# EAGLE library part 284-1273-00-1102JH (library con-3m)
Zero Insertion Force Socked Source: http://www.3M.com/ehpd
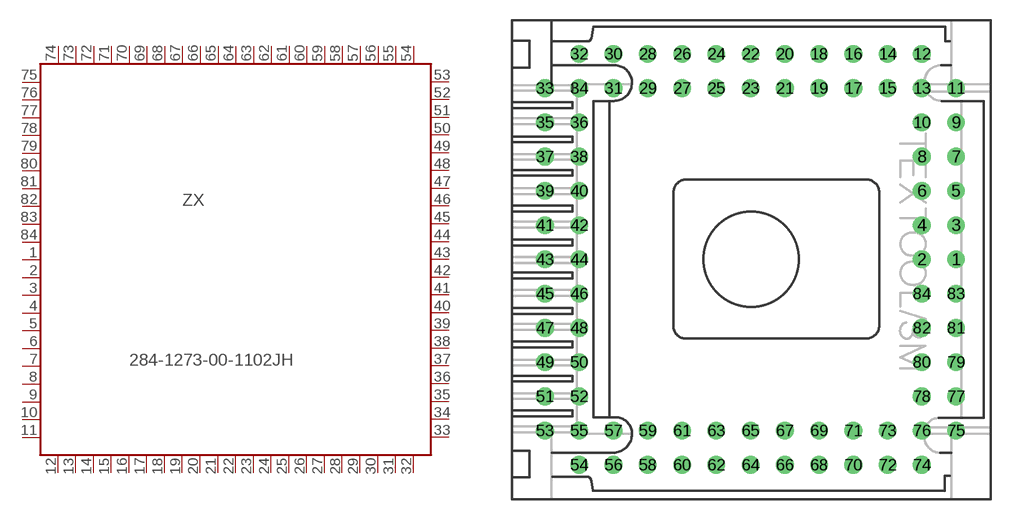
[diagram p17: symbol with the pads of 284-1273-00-1102JH; footprint 284-1273-00-1102JH]

Designator prefix ZX

## 284-1273-00-1102JH  [284-1273-00-1102JH]
1  1  pas
2  2  pas
3  3  pas
4  4  pas
5  5  pas
6  6  pas
7  7  pas
8  8  pas
9  9  pas
10  10  pas
11  11  pas
12  12  pas
13  13  pas
14  14  pas
15  15  pas
16  16  pas
17  17  pas
18  18  pas
19  19  pas
20  20  pas
21  21  pas
22  22  pas
23  23  pas
24  24  pas
25  25  pas
26  26  pas
27  27  pas
28  28  pas
29  29  pas
30  30  pas
31  31  pas
32  32  pas
33  33  pas
34  34  pas
35  35  pas
36  36  pas
37  37  pas
38  38  pas
39  39  pas
40  40  pas
41  41  pas
42  42  pas
43  43  pas
44  44  pas
45  45  pas
46  46  pas
47  47  pas
48  48  pas
49  49  pas
50  50  pas
51  51  pas
52  52  pas
53  53  pas
54  54  pas
55  55  pas
56  56  pas
57  57  pas
58  58  pas
59  59  pas
60  60  pas
61  61  pas
62  62  pas
63  63  pas
64  64  pas
65  65  pas
66  66  pas
67  67  pas
68  68  pas
69  69  pas
70  70  pas
71  71  pas
72  72  pas
73  73  pas
74  74  pas
75  75  pas
76  76  pas
77  77  pas
78  78  pas
79  79  pas
80  80  pas
81  81  pas
82  82  pas
83  83  pas
84  84  pas

## Footprint 284-1273-00-1102JH (pad centres in mm)
OEM LCC Sockets 84 pol. Source: http://www.3M.com/ehpd
drill 0.8 pad 1.27: 1 15.24,0; 2 12.7,0; 3 15.24,2.54; 4 12.7,2.54; 5 15.24,5.08; 6 12.7,5.08; 7 15.24,7.62; 8 12.7,7.62; 9 15.24,10.16; 10 12.7,10.16; 11 15.24,12.7; 12 12.7,15.24; 13 12.7,12.7; 14 10.16,15.24; 15 10.16,12.7; 16 7.62,15.24; 17 7.62,12.7; 18 5.08,15.24; 19 5.08,12.7; 20 2.54,15.24; 21 2.54,12.7; 22 0,15.24; 23 0,12.7; 24 -2.54,15.24; 25 -2.54,12.7; 26 -5.08,15.24; 27 -5.08,12.7; 28 -7.62,15.24; 29 -7.62,12.7; 30 -10.16,15.24; 31 -10.16,12.7; 32 -12.7,15.24; 33 -15.24,12.7; 34 -12.7,12.7; 35 -15.24,10.16; 36 -12.7,10.16; 37 -15.24,7.62; 38 -12.7,7.62; 39 -15.24,5.08; 40 -12.7,5.08; 41 -15.24,2.54; 42 -12.7,2.54; 43 -15.24,0; 44 -12.7,0; 45 -15.24,-2.54; 46 -12.7,-2.54; 47 -15.24,-5.08; 48 -12.7,-5.08; 49 -15.24,-7.62; 50 -12.7,-7.62; 51 -15.24,-10.16; 52 -12.7,-10.16; 53 -15.24,-12.7; 54 -12.7,-15.24; 55 -12.7,-12.7; 56 -10.16,-15.24; 57 -10.16,-12.7; 58 -7.62,-15.24; 59 -7.62,-12.7; 60 -5.08,-15.24; 61 -5.08,-12.7; 62 -2.54,-15.24; 63 -2.54,-12.7; 64 0,-15.24; 65 0,-12.7; 66 2.54,-15.24; 67 2.54,-12.7; 68 5.08,-15.24; 69 5.08,-12.7; 70 7.62,-15.24; 71 7.62,-12.7; 72 10.16,-15.24; 73 10.16,-12.7; 74 12.7,-15.24; 75 15.24,-12.7; 76 12.7,-12.7; 77 15.24,-10.16; 78 12.7,-10.16; 79 15.24,-7.62; 80 12.7,-7.62; 81 15.24,-5.08; 82 12.7,-5.08; 83 15.24,-2.54; 84 12.7,-2.54